# Altium schematic symbol library TPB4056B2X-ES1R.SchLib: 1 symbol
Pins are listed as number, name and electrical type; pins without a type are passive.

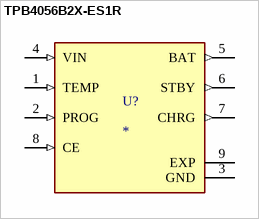
[diagram p0: symbol TPB4056B2X-ES1R]

## TPB4056B2X-ES1R
designator U?
Charger IC Lithium Ion/Polymer 8-ESOP; MF: 3PEAK; MP: TPB4056B2X-ES1R; SnapEDA_Link: https://www.snapeda.com/parts/TPB4056B2X-ES1R/3Peak/view-part/?ref=snap; Package: SOIC-8 3Peak; Value: *; Check_prices: https://www.snapeda.com/parts/TPB4056B2X-ES1R/3Peak/view-part/?ref=eda
footprint SOIC127P600X170-9N
pins: 1 TEMP (in), 2 PROG (in), 3 GND (power), 4 VIN (in), 5 BAT (out), 6 STBY (out), 7 CHRG (out), 8 CE (in), 9 EXP (power)